# EAGLE library part 9PADS (library HbHandBoardMk2_V4)
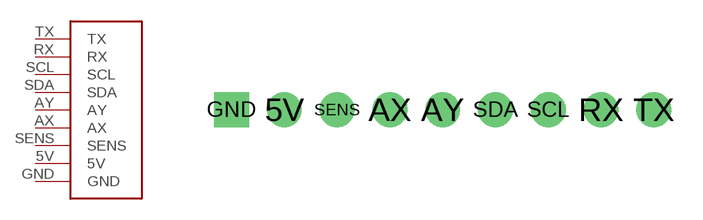
[diagram p2: symbol with the pads of 9PADS; footprint 9PADS]

Designator prefix -

## 9PADS  [9PADS]
5V  5V
AX  AX
AY  AY
GND  GND
RX  RX
SCL  SCL
SDA  SDA
SENS  SENS
TX  TX

## Footprint 9PADS (pad centres in mm)
drill 0.9 pad 1.676: 5V 2.54,0; AX 7.62,0; AY 10.16,0; RX 17.78,0; SCL 15.24,0; SDA 12.7,0; SENS 5.08,0; TX 20.32,0
drill 0.9 pad 1.676 square: GND 0,0